# Altium footprint library uCs.PcbLib: 2 footprints
Each footprint in its own frame and in the unit in brackets; x right, y up, seen from the top. Pads: shape width x height; smd on the part's side, far side on the other; paste and mask are expansions set on the pad; w line width, h text height; cw(c..) or ccw(c..) is an arc to the next point about the centre after c.
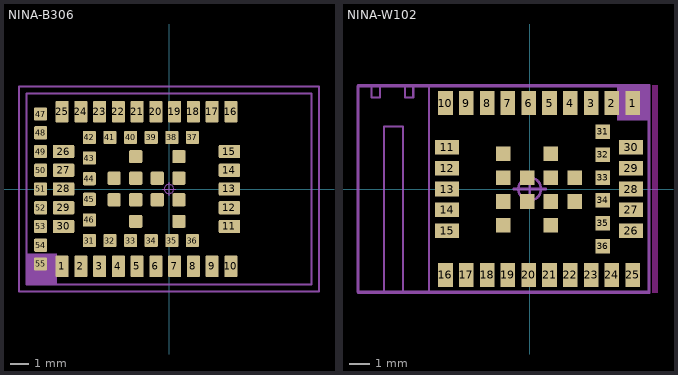
[diagram p0: the footprints below, top view; thin cyan lines are the x and y axes]

## NINA-B306 [mm] "NINA-B306"
pads (67):
  rrect18% 0.7x1.15 smd paste+0 mask+0: 1(-5.7,-4.125) 2(-4.7,-4.125) 3(-3.7,-4.125) 4(-2.7,-4.125) 5(-1.7,-4.125) 6(-0.7,-4.125) 7(0.3,-4.125) 8(1.3,-4.125) 9(2.3,-4.125) 10(3.3,-4.125) 16(3.3,4.125) 17(2.3,4.125) 18(1.3,4.125) 19(0.3,4.125) 20(-0.7,4.125) 21(-1.7,4.125) 22(-2.7,4.125) 23(-3.7,4.125) 24(-4.7,4.125) 25(-5.7,4.125)
  rrect18% 1.15x0.7 smd paste+0 mask+0: 11(3.225,-2) 12(3.225,-1) 13(3.225,0) 14(3.225,1) 15(3.225,2) 26(-5.625,2) 27(-5.625,1) 28(-5.625,0) 29(-5.625,-1) 30(-5.625,-2)
  rrect18% 0.7x0.7 smd paste+0 mask+0: 31(-4.25,-2.75) 32(-3.15,-2.75) 33(-2.05,-2.75) 34(-0.95,-2.75) 35(0.15,-2.75) 36(1.25,-2.75) 37(1.25,2.75) 38(0.15,2.75) 39(-0.95,2.75) 40(-2.05,2.75) 41(-3.15,2.75) 42(-4.25,2.75) 43(-4.25,1.65) 44(-4.25,0.55) 45(-4.25,-0.55) 46(-4.25,-1.65) 47(-6.85,4) 48(-6.85,3) 49(-6.85,2) 50(-6.85,1) 51(-6.85,0) 52(-6.85,-1) 53(-6.85,-2) 54(-6.85,-3) 55(-6.85,-4) GND1(0.525,-1.725) GND2(0.525,-0.575) GND3(0.525,0.575) GND4(0.525,1.725) GND5(-0.625,-0.575) GND6(-0.625,0.575) GND7(-1.775,-1.725) GND8(-1.775,-0.575) GND9(-1.775,0.575) GND10(-1.775,1.725) GND11(-2.925,-0.575) GND12(-2.925,0.575)
Mechanical 13:
  region: -5.969,-5.1 -5.969,-3.429 -7.6,-3.429 -7.6,-5.1
  lines w0.12: -7.6,-5.1 7.6,-5.1 7.6,5.1 -7.6,5.1 -7.6,-5.1
Mechanical 15:
  circle w0.05: c0,0 r0.25
  lines w0.05: -0.35,0 0.35,0 ; 0,-0.35 0,0.35
  lines w0.1: -8.001,-5.461 8.001,-5.461 8.001,5.461 -8.001,5.461 -8.001,-5.461
3D body "NINA-B3x6.stp": height 2.27, standoff 0, extent -7.5,-5 7.5,5

## NINA-W102 [mm] "NINA-W102"
pads (48):
  rect 0.7x1.15 smd mask+0.05: 1(4.95,4.125) 2(3.95,4.125) 3(2.95,4.125) 4(1.95,4.125) 5(0.95,4.125) 6(-0.05,4.125) 7(-1.05,4.125) 8(-2.05,4.125) 9(-3.05,4.125) 10(-4.05,4.125) 16(-4.05,-4.125) 17(-3.05,-4.125) 18(-2.05,-4.125) 19(-1.05,-4.125) 20(-0.05,-4.125) 21(0.95,-4.125) 22(1.95,-4.125) 23(2.95,-4.125) 24(3.95,-4.125) 25(4.95,-4.125)
  rect 1.15x0.7 smd mask+0.05: 11(-3.975,2) 12(-3.975,1) 13(-3.975,0) 14(-3.975,-1) 15(-3.975,-2) 26(4.875,-2) 27(4.875,-1) 28(4.875,0) 29(4.875,1) 30(4.875,2)
  rect 0.7x0.7 smd mask+0.05: 31(3.5,2.75) 32(3.5,1.65) 33(3.5,0.55) 34(3.5,-0.55) 35(3.5,-1.65) 36(3.5,-2.75) GND1(-1.28,1.7) GND2(-1.28,0.55) GND3(-1.28,-0.6) GND4(-1.28,-1.75) GND5(-0.13,0.55) GND6(-0.13,-0.6) GND7(1.02,1.7) GND8(1.02,0.55) GND9(1.02,-0.6) GND10(1.02,-1.75) GND11(2.17,0.55) GND12(2.17,-0.6)
Keep-Out Layer:
  rectangle: 5.865,-5 6.165,5
Mechanical 13:
  rectangle: 4.191,3.302 5.715,4.953
  lines w0.127: -8.255,-4.953 5.715,-4.953 5.715,4.953 -8.255,4.953 -8.255,-4.953
Mechanical 15:
  circle w0.127: c0,0 r0.543
  lines w0.1: -7.6,5 -7.6,4.4 -7.2,4.4 -7.2,5 ; -7.6,5 -7.2,5 ; -7.6,5 -8.25,5 -8.25,-5 -7,-5 ; -7.2,5 -6,5 ; -7,-5 -7,3 -6.1,3 -6.1,-5 ; -7,-5 -6.1,-5 ; -6.1,-5 -4.85,-5 ; -6,5 -6,4.4 -5.6,4.4 -5.6,5 ; -6,5 -5.6,5 ; -5.6,5 -4.85,5 ; -4.85,-5 -4.85,5 ; -4.85,-5 5.75,-5 5.75,5 -4.85,5
  lines w0.127: -0.762,0 0.762,0 ; 0,-0.762 0,0.762
3D body "NINA-W132-00B.STEP": height 3.81, standoff -0.01, extent -8.27,-5.047 5.73,4.953